# Altium footprint library Посадочные места.PcbLib: 12 footprints
Each footprint in its own frame and in the unit in brackets; x right, y up, seen from the top. Pads: shape width x height; smd on the part's side, far side on the other; paste and mask are expansions set on the pad; w line width, h text height; cw(c..) or ccw(c..) is an arc to the next point about the centre after c.
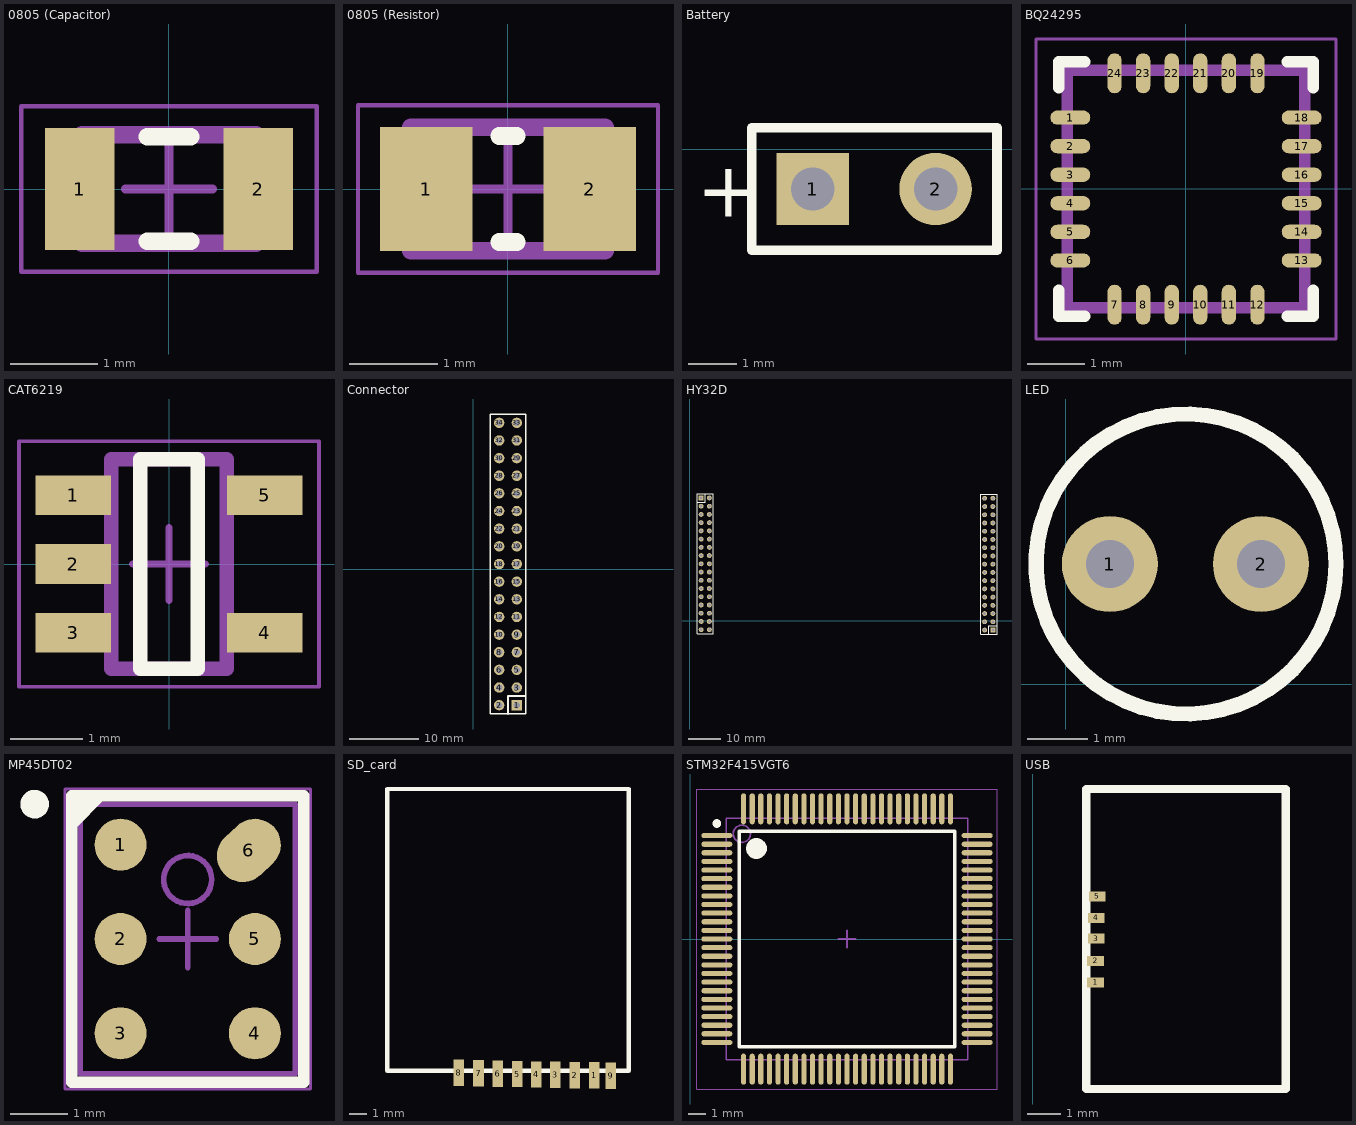
[diagram p0: the footprints below, top view; thin cyan lines are the x and y axes]

## 0805 (Capacitor) [mm] "Chip Capacitor, 2-Leads, Body 2,00x1,25mm, IPC Medium Density"
height 0.8
pads (2):
  rect 0.8x1.4 smd: 1(-1.025,0) 2(1.025,0)
Top Overlay:
  lines w0.2: -0.25,-0.6 0.25,-0.6 ; -0.25,0.6 0.25,0.6
Mechanical 13:
  lines w0.2: -1,-0.625 1,-0.625 1,0.625 -1,0.625 -1,-0.625
Mechanical 15:
  lines w0.05: -1.7,-0.95 1.7,-0.95 1.7,0.95 -1.7,0.95 -1.7,-0.95
  lines w0.1: -0.5,0 0.5,0 ; 0,-0.5 0,0.5
3D body "CAP0805.stp": height 0.78, standoff 0, extent -0.975,-0.625 1.025,0.625

## 0805 (Resistor) [mm] "Chip Resistor, 2-Leads, Body 2,10x1,30mm, IPC Medium Density"
height 0.5
pads (2):
  rect 1.05x1.4 smd: 1(-0.925,0) 2(0.925,0)
Top Overlay:
  lines w0.2: -0.1,-0.6 0.1,-0.6 ; -0.1,0.6 0.1,0.6
Mechanical 13:
  lines w0.2: -1.1,-0.7 -1.1,0.7 1.1,0.7 1.1,-0.7 -1.1,-0.7
Mechanical 15:
  lines w0.05: -1.7,-0.95 -1.7,0.95 1.7,0.95 1.7,-0.95 -1.7,-0.95
  lines w0.1: -0.5,0 0.5,0 ; 0,-0.5 0,0.5
3D body "RES0805.stp": height 0.5, standoff 0, extent -0.975,-0.625 1.025,0.625

## Battery [mm]
pads (2):
  rect 1.5x1.5 hole 0.9: 1(3.27,-0.818)
  round 1.5 hole 0.9: 2(5.81,-0.818)
Top Overlay:
  lines w0.2: 2,-2.088 2,0.452 7.08,0.452 7.08,-2.088 2,-2.088
  text "+" at 0.87,-1.395 h1.15
3D body "User Library-PLS-1R.step": height 5.85, standoff -2.6, extent 2,-8.168 4.54,0.452
3D body "User Library-PLS-1R.step": height 5.85, standoff -2.6, extent 4.54,-8.168 7.08,0.452

## BQ24295 [mm] "QFN, 24-Leads, Body 4,00x4,00mm, Pitch 0,50mm, Thermal Pad 3,00x3,00mm, IPC Medium Density"
height 0.9
pads (24):
  oval 0.7x0.25 smd: 1(-2.025,1.25) 2(-2.025,0.75) 3(-2.025,0.25) 4(-2.025,-0.25) 5(-2.025,-0.75) 6(-2.025,-1.25) 13(2.025,-1.25) 14(2.025,-0.75) 15(2.025,-0.25) 16(2.025,0.25) 17(2.025,0.75) 18(2.025,1.25)
  oval 0.25x0.7 smd: 7(-1.25,-2.025) 8(-0.75,-2.025) 9(-0.25,-2.025) 10(0.25,-2.025) 11(0.75,-2.025) 12(1.25,-2.025) 19(1.25,2.025) 20(0.75,2.025) 21(0.25,2.025) 22(-0.25,2.025) 23(-0.75,2.025) 24(-1.25,2.025)
Top Overlay:
  lines w0.2: -2.225,-1.775 -2.225,-2.225 -1.775,-2.225 ; -2.225,1.775 -2.225,2.225 -1.775,2.225 ; 1.775,-2.225 2.225,-2.225 2.225,-1.775 ; 1.775,2.225 2.225,2.225 2.225,1.775
Mechanical 13:
  lines w0.2: -2.075,-2.075 2.075,-2.075 2.075,2.075 -2.075,2.075 -2.075,-2.075
Mechanical 15:
  lines w0.05: -2.625,-2.625 -2.625,2.625 2.625,2.625 2.625,-2.625 -2.625,-2.625
3D body "BQ24295.step": height 1, standoff -0.07, extent -2.05,-2.05 2.05,2.05

## CAT6219 [mm] "SOT23, 5-Leads, Body 2,90x2,80mm, Pitch 0,95mm, IPC Medium Density"
height 1
pads (5):
  rect 1.05x0.55 smd: 1(-1.325,0.95) 2(-1.325,0) 3(-1.325,-0.95) 4(1.325,-0.95) 5(1.325,0.95)
Top Overlay:
  lines w0.2: -0.4,-1.45 -0.4,1.45 0.4,1.45 0.4,-1.45 -0.4,-1.45
Mechanical 13:
  lines w0.2: -0.8,-1.45 0.8,-1.45 0.8,1.45 -0.8,1.45 -0.8,-1.45
Mechanical 15:
  lines w0.05: -2.075,-1.7 2.075,-1.7 2.075,1.7 -2.075,1.7 -2.075,-1.7
  lines w0.1: -0.5,0 0.5,0 ; 0,-0.5 0,0.5
3D body "CAT6219.step": height 1.3, standoff 0, extent -1.5,-1.5 1.5,1.5

## Connector [mm]
pads (34):
  rect 1.5x1.5 hole 0.9: 1(6.25,-19.575)
  round 1.5 hole 0.9: 2(3.71,-19.575) 3(6.25,-17.035) 4(3.71,-17.035) 5(6.25,-14.495) 6(3.71,-14.495) 7(6.25,-11.955) 8(3.71,-11.955) 9(6.25,-9.415) 10(3.71,-9.415) 11(6.25,-6.875) 12(3.71,-6.875) 13(6.25,-4.335) 14(3.71,-4.335) 15(6.25,-1.795) 16(3.71,-1.795) 17(6.25,0.745) 18(3.71,0.745) 19(6.25,3.285) 20(3.71,3.285) 21(6.25,5.825) 22(3.71,5.825) 23(6.25,8.365) 24(3.71,8.365) 25(6.25,10.905) 26(3.71,10.905) 27(6.25,13.445) 28(3.71,13.445) 29(6.25,15.985) 30(3.71,15.985) 31(6.25,18.525) 32(3.71,18.525) 33(6.25,21.065) 34(3.71,21.065)
Top Overlay:
  lines w0.2: 2.44,-20.845 7.52,-20.845 7.52,22.335 2.44,22.335 2.44,-20.845
  lines w0.254: 4.98,-20.845 4.98,-18.27 5,-18.25 7.5,-18.25
3D body "User Library-PLD-xx.step": height 8.4, standoff -3, extent 2.475,-20.85 7.475,22.33

## HY32D [mm]
pads (68):
  rect 1.5x1.5 hole 0.9: 1(3.5,37.925) 35(93.5,-2.825)
  round 1.5 hole 0.9: 2(6.04,37.925) 3(3.5,35.385) 4(6.04,35.385) 5(3.5,32.845) 6(6.04,32.845) 7(3.5,30.305) 8(6.04,30.305) 9(3.5,27.765) 10(6.04,27.765) 11(3.5,25.225) 12(6.04,25.225) 13(3.5,22.685) 14(6.04,22.685) 15(3.5,20.145) 16(6.04,20.145) 17(3.5,17.605) 18(6.04,17.605) 19(3.5,15.065) 20(6.04,15.065) 21(3.5,12.525) 22(6.04,12.525) 23(3.5,9.985) 24(6.04,9.985) 25(3.5,7.445) 26(6.04,7.445) 27(3.5,4.905) 28(6.04,4.905) 29(3.5,2.365) 30(6.04,2.365) 31(3.5,-0.175) 32(6.04,-0.175) 33(3.5,-2.715) 34(6.04,-2.715) 36(90.96,-2.825) 37(93.5,-0.285) 38(90.96,-0.285) 39(93.5,2.255) 40(90.96,2.255) 41(93.5,4.795) 42(90.96,4.795) 43(93.5,7.335) 44(90.96,7.335) 45(93.5,9.875) 46(90.96,9.875) 47(93.5,12.415) 48(90.96,12.415) 49(93.5,14.955) 50(90.96,14.955) 51(93.5,17.495) 52(90.96,17.495) 53(93.5,20.035) 54(90.96,20.035) 55(93.5,22.575) 56(90.96,22.575) 57(93.5,25.115) 58(90.96,25.115) 59(93.5,27.655) 60(90.96,27.655) 61(93.5,30.195) 62(90.96,30.195) 63(93.5,32.735) 64(90.96,32.735) 65(93.5,35.275) 66(90.96,35.275) 67(93.5,37.815) 68(90.96,37.815)
Top Overlay:
  lines w0.2: 2.23,-3.985 7.31,-3.985 7.31,39.195 2.23,39.195 2.23,-3.985 ; 89.69,-4.095 89.69,39.085 94.77,39.085 94.77,-4.095 89.69,-4.095
  lines w0.254: 2.25,36.6 4.75,36.6 4.77,36.62 4.77,39.195 ; 92.23,-4.095 92.23,-1.52 92.25,-1.5 94.75,-1.5
3D body "HY32D.STEP": height -2.87, standoff -8.9, extent 0.955,-13.42 95.925,48.82
3D body "User Library-PLD-xx.step": height 8.4, standoff -3, extent 89.725,-4.1 94.725,39.08
3D body "User Library-PLD-xx.step": height 8.4, standoff -3, extent 2.275,-3.98 7.275,39.2

## LED [mm]
pads (2):
  round 1.6 hole 0.8: 1(0.73,1.998) 2(3.25,2)
Top Overlay:
  circle w0.254: c2,2 r2.5
3D body "LED.step": height 5.38, standoff -3.17, extent 0.007,0.5 3.993,3.992

## MP45DT02 [mm]
pads (6):
  round 0.91 smd: 1(2.472,-1.517) 2(2.472,-3.167) 3(2.472,-4.817) 4(4.822,-4.817) 5(4.822,-3.167)
  oval 0.91x1.2 smd rot 133.5: 6(4.717,-1.617)
Top Overlay:
  circle w0.25: c0.967,-0.807 r0.125
  region: 2.123,-0.657 1.617,-1.163 1.617,-0.657
  lines w0.2: 1.617,-1.163 2.123,-0.657 ; 1.617,-5.677 5.677,-5.677 5.677,-0.657 1.617,-0.657 1.617,-5.677
Mechanical 13:
  circle w0.1: c3.647,-2.127 r0.42
  lines w0.1: 1.767,-5.527 5.527,-5.527 5.527,-0.807 1.767,-0.807 1.767,-5.527
Mechanical 15:
  lines w0.05: 1.497,-5.792 5.797,-5.792 5.797,-0.542 1.497,-0.542 1.497,-5.792
  lines w0.1: 3.147,-3.167 4.147,-3.167 ; 3.647,-3.667 3.647,-2.667
3D body: height 1.38, standoff 0, extent 3.228,-2.546 4.066,-1.708
3D body: height 1.38, standoff 0, extent 1.767,-5.527 5.527,-0.807

## SD_card [mm]
pads (9):
  rect 0.6x1.5 smd: 1(20.525,-18.025) 2(19.425,-18.025) 3(18.3,-18) 4(17.225,-17.975) 5(16.15,-17.95) 6(15.05,-17.925) 7(13.95,-17.9) 8(12.825,-17.875) 9(21.475,-18.05)
Top Overlay:
  lines w0.254: 8.75,-17.75 22.5,-17.75 22.5,-1.75 8.75,-1.75 8.75,-17.75
3D body "User Library-DM3AT-SF-PEJM5.STEP": height 1.68, standoff 0, extent 8.65,-17.9 22.5,-1.75

## STM32F415VGT6 [mm]
pads (100):
  oval 1.8x0.3 smd: 1(1.534,6.009) 2(1.534,5.509) 3(1.534,5.009) 4(1.534,4.509) 5(1.534,4.009) 6(1.534,3.509) 7(1.534,3.009) 8(1.534,2.509) 9(1.534,2.009) 10(1.534,1.509) 11(1.534,1.009) 12(1.534,0.509) 13(1.534,0.009) 14(1.534,-0.491) 15(1.534,-0.991) 16(1.534,-1.491) 17(1.534,-1.991) 18(1.534,-2.491) 19(1.534,-2.991) 20(1.534,-3.491) 21(1.534,-3.991) 22(1.534,-4.491) 23(1.534,-4.991) 24(1.534,-5.491) 25(1.534,-5.991) 51(16.634,-5.991) 52(16.634,-5.491) 53(16.634,-4.991) 54(16.634,-4.491) 55(16.634,-3.991) 56(16.634,-3.491) 57(16.634,-2.991) 58(16.634,-2.491) 59(16.634,-1.991) 60(16.634,-1.491) 61(16.634,-0.991) 62(16.634,-0.491) 63(16.634,0.009) 64(16.634,0.509) 65(16.634,1.009) 66(16.634,1.509) 67(16.634,2.009) 68(16.634,2.509) 69(16.634,3.009) 70(16.634,3.509) 71(16.634,4.009) 72(16.634,4.509) 73(16.634,5.009) 74(16.634,5.509) 75(16.634,6.009)
  oval 0.3x1.8 smd: 26(3.084,-7.541) 27(3.584,-7.541) 28(4.084,-7.541) 29(4.584,-7.541) 30(5.084,-7.541) 31(5.584,-7.541) 32(6.084,-7.541) 33(6.584,-7.541) 34(7.084,-7.541) 35(7.584,-7.541) 36(8.084,-7.541) 37(8.584,-7.541) 38(9.084,-7.541) 39(9.584,-7.541) 40(10.084,-7.541) 41(10.584,-7.541) 42(11.084,-7.541) 43(11.584,-7.541) 44(12.084,-7.541) 45(12.584,-7.541) 46(13.084,-7.541) 47(13.584,-7.541) 48(14.084,-7.541) 49(14.584,-7.541) 50(15.084,-7.541) 76(15.084,7.559) 77(14.584,7.559) 78(14.084,7.559) 79(13.584,7.559) 80(13.084,7.559) 81(12.584,7.559) 82(12.084,7.559) 83(11.584,7.559) 84(11.084,7.559) 85(10.584,7.559) 86(10.084,7.559) 87(9.584,7.559) 88(9.084,7.559) 89(8.584,7.559) 90(8.084,7.559) 91(7.584,7.559) 92(7.084,7.559) 93(6.584,7.559) 94(6.084,7.559) 95(5.584,7.559) 96(5.084,7.559) 97(4.584,7.559) 98(4.084,7.559) 99(3.584,7.559) 100(3.084,7.559)
Top Overlay:
  circle w0.25: c1.534,6.709 r0.125
  circle w0.6: c3.834,5.259 r0.3
  lines w0.2: 2.834,-6.241 2.834,6.259 15.334,6.259 15.334,-6.241 2.834,-6.241
Mechanical 13:
  circle w0.1: c2.984,6.109 r0.5
  lines w0.1: 2.084,-6.991 2.084,7.009 16.084,7.009 16.084,-6.991 2.084,-6.991
Mechanical 15:
  lines w0.05: 0.384,-8.691 0.384,8.709 17.784,8.709 17.784,-8.691 0.384,-8.691
  lines w0.1: 8.584,0.009 9.584,0.009 ; 9.084,-0.491 9.084,0.509
3D body "User Library-LQFP100.step": height 1.6, standoff 0, extent 1.084,-7.991 17.084,8.009

## USB [mm]
pads (5):
  rect 0.5x0.3 smd: 1(1.9,-11.55) 2(1.9,-10.9) 3(1.925,-10.225) 4(1.925,-9.6) 5(1.95,-8.95)
Top Overlay:
  lines w0.254: 1.625,-14.775 7.65,-14.775 7.65,-12.456 7.65,-7.919 7.65,-5.7 1.625,-5.7 1.625,-14.775
3D body "48284.stp": height 2.71, standoff -0.23, extent 1.75,-14.65 7.481,-5.85